# Altium schematic symbol library WNM3025-3_TR.Schlib: 1 symbol
Pins are listed as number, name and electrical type; pins without a type are passive.

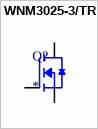
[diagram p0: symbol WNM3025-3/TR]

## WNM3025-3/TR
designator Q?
pins: 1 G, 2 S, 3 D